# EAGLE library part USB-3.0-DUAL (library ds_con)
WR-COM USB 3.0 Type A Stacked Kind Properties Durability:5 000 Mating cycles Quality Class:5 000 Mating cycles Connector Type:USB Gender:Receptacle Type:Stacked Horizontal General Information Operating Temperature:-40up to +85 °C Compliance:RoHS Electrical Properties IR 1:1.8A Working Voltage:30V (AC) Withstanding Voltage:100V (AC) Contact Resistance:50 mΩ Material Properties Insulator Material:LCP Insulator Flammability Rating:UL94 V-0 Color:Blue Contact Material:Phosphor Bronze Contact Plating:Matte Tin over Nickel Contact Type:Stamped Shielding Material:Brass Shielding Material:Matte Tin <https://www.we-online.com/catalog/media/o33031v209%20Family_WR-COM_692141030100.jpg> Details see: https://www.we-online.com/catalog/en/COM_3_0_TYPE_A_STACKED/ Updated by Yingchun, Shan 2020-01-16 2020 (C) Würth Elektronik
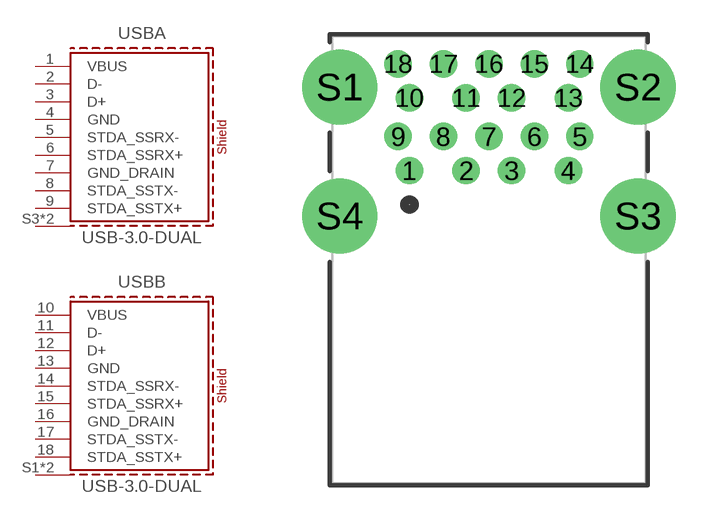
[diagram p6: symbol with the pads of USB-3.0-DUAL; footprint USB-3.0-DUAL]

Designator prefix USB; gates A=USB3_TYPEA B=USB3_TYPEA

## USB-3.0-DUAL (DATASHEET: https://www.we-online.com/redexpert/spec/692141030100?ae; DESCRIPTION: Plugin USB Connectors ROHS; HQ_PART: CO0889736; LCSC_PART: C5519092; MPN: 692141030100; ROHS: YES; VALUE: 692141030100)  [USB-3.0-DUAL]
1  A:VBUS  pas
2  A:D-  pas
3  A:D+  pas
4  A:GND  pas
5  A:STDA_SSRX-  pas
6  A:STDA_SSRX+  pas
7  A:GND_DRAIN  pas
8  A:STDA_SSTX-  pas
9  A:STDA_SSTX+  pas
10  B:VBUS  pas
11  B:D-  pas
12  B:D+  pas
13  B:GND  pas
14  B:STDA_SSRX-  pas
15  B:STDA_SSRX+  pas
16  B:GND_DRAIN  pas
17  B:STDA_SSTX-  pas
18  B:STDA_SSTX+  pas
S1  B:SHIELD  pas
S2  B:SHIELD  pas
S3  A:SHIELD  pas
S4  A:SHIELD  pas

## Footprint USB-3.0-DUAL (pad centres in mm)
WR-COM USB 3.0 STACKED TYPE A
drill 0.7: 1 -3.5,3.93; 2 -1,3.93; 3 1,3.93; 4 3.5,3.93; 5 4,5.43; 6 2,5.43; 7 0,5.43; 8 -2,5.43; 9 -4,5.43; 10 -3.5,7.13; 11 -1,7.13; 12 1,7.13; 13 3.5,7.13; 14 4,8.63; 15 2,8.63; 16 0,8.63; 17 -2,8.63; 18 -4,8.63
drill 2.3: S1 -6.57,7.61; S2 6.57,7.61; S3 6.57,1.93; S4 -6.57,1.93